# EAGLE library part LM334 (library di_ic)
3-Terminal Adjustable Current Sources Source: www.national.com/pf/LM/LM334.html | LM134.pdf
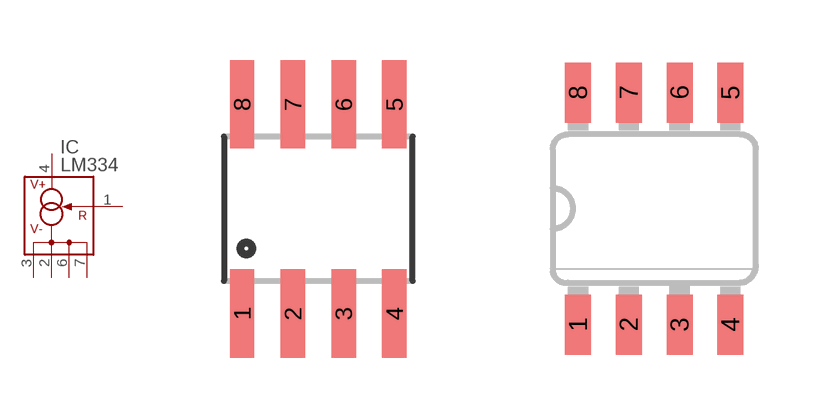
[diagram p0: symbol with the pads of SO08; footprints SO08, SO08N]

Designator prefix IC

## LM334-SO08  [SO08]
1  R  pas
2  V-  pas
3  V-  pas
4  V+  pas
6  V-  pas
7  V-  pas

## LM334-SO08N  [SO08N]
Pads as for SO08

## Footprint SO08 (pad centres in mm)
Small Outline Package Fits JEDEC packages (narrow SOIC-8)
smd 0.61 x 2.21: 1 -1.905,-2.616; 2 -0.635,-2.616; 3 0.635,-2.616; 4 1.905,-2.616; 5 1.905,2.616; 6 0.635,2.616; 7 -0.635,2.616; 8 -1.905,2.616

## Footprint SO08N (pad centres in mm)
smd 0.65 x 1.5: 1 -1.905,-2.9; 2 -0.635,-2.9; 3 0.635,-2.9; 4 1.905,-2.9; 5 1.905,2.9; 6 0.635,2.9; 7 -0.635,2.9; 8 -1.905,2.9